# EAGLE library part 738-224 (library con-wago_738)
Serie 738, Vierstock-Klemmenleiste für Leiterplatten Lötstifte für Stockwerk 2 und 4 um das 1/2 Rastermaß versetzt / Series 738, Quadruple-deck PCB terminal strip solder pins for deck 2 and 4 staggered by half the pin spacing Polzahl / Pole No.: 24 Rastermaß / Pitch: 5 mm Bemessungsspannung / Rated Voltage: 320 V Nennstrom / Nominal Current: 18 A Leiterquerschnitt / Conductor Size: 0.08 - 2.5 mm² Anschlusstechnik / Connection Technology: CAGE CLAMP® Lötstiftlänge: / Solder Pin Length: 4 mm Leitereinführung (zur Platine) / Conductor entry angle (to PCB): 45 ° Farbe / Color: grau / gray Stand: 01.01.2012. Die jeweils aktuellen Daten zu diesem Artikel finden Sie in unserem Produktkatalog, den Sie unter www.wago.com einsehen können. As of: 01/01/2012. Please find the newest data for this article in our product catalogue, which can be viewed under www.wago.com.
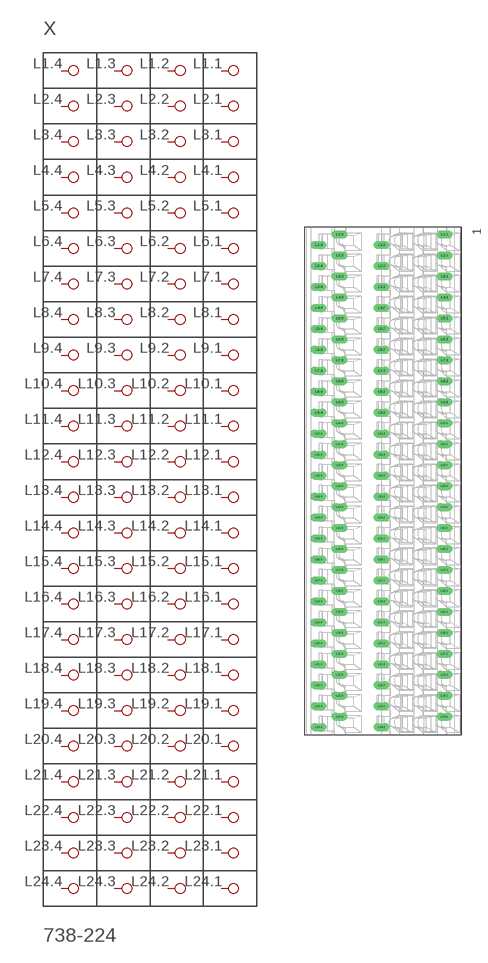
[diagram p15: symbol with the pads of P-738-224; footprint P-738-224]

Designator prefix X

## 738-224  [P-738-224]
L1.1  P1.1
L1.2  P1.2
L1.3  P1.3
L1.4  P1.4
L2.1  P2.1
L2.2  P2.2
L2.3  P2.3
L2.4  P2.4
L3.1  P3.1
L3.2  P3.2
L3.3  P3.3
L3.4  P3.4
L4.1  P4.1
L4.2  P4.2
L4.3  P4.3
L4.4  P4.4
L5.1  P5.1
L5.2  P5.2
L5.3  P5.3
L5.4  P5.4
L6.1  P6.1
L6.2  P6.2
L6.3  P6.3
L6.4  P6.4
L7.1  P7.1
L7.2  P7.2
L7.3  P7.3
L7.4  P7.4
L8.1  P8.1
L8.2  P8.2
L8.3  P8.3
L8.4  P8.4
L9.1  P9.1
L9.2  P9.2
L9.3  P9.3
L9.4  P9.4
L10.1  P10.1
L10.2  P10.2
L10.3  P10.3
L10.4  P10.4
L11.1  P11.1
L11.2  P11.2
L11.3  P11.3
L11.4  P11.4
L12.1  P12.1
L12.2  P12.2
L12.3  P12.3
L12.4  P12.4
L13.1  P13.1
L13.2  P13.2
L13.3  P13.3
L13.4  P13.4
L14.1  P14.1
L14.2  P14.2
L14.3  P14.3
L14.4  P14.4
L15.1  P15.1
L15.2  P15.2
L15.3  P15.3
L15.4  P15.4
L16.1  P16.1
L16.2  P16.2
L16.3  P16.3
L16.4  P16.4
L17.1  P17.1
L17.2  P17.2
L17.3  P17.3
L17.4  P17.4
L18.1  P18.1
L18.2  P18.2
L18.3  P18.3
L18.4  P18.4
L19.1  P19.1
L19.2  P19.2
L19.3  P19.3
L19.4  P19.4
L20.1  P20.1
L20.2  P20.2
L20.3  P20.3
L20.4  P20.4
L21.1  P21.1
L21.2  P21.2
L21.3  P21.3
L21.4  P21.4
L22.1  P22.1
L22.2  P22.2
L22.3  P22.3
L22.4  P22.4
L23.1  P23.1
L23.2  P23.2
L23.3  P23.3
L23.4  P23.4
L24.1  P24.1
L24.2  P24.2
L24.3  P24.3
L24.4  P24.4

## Footprint P-738-224 (pad centres in mm)
drill 1.3 long: L1.1 14.685,58.8; L1.2 -0.315,56.3; L1.3 -10.315,58.8; L1.4 -15.315,56.3; L2.1 14.685,53.8; L2.2 -0.315,51.3; L2.3 -10.315,53.8; L2.4 -15.315,51.3; L3.1 14.685,48.8; L3.2 -0.315,46.3; L3.3 -10.315,48.8; L3.4 -15.315,46.3; L4.1 14.685,43.8; L4.2 -0.315,41.3; L4.3 -10.315,43.8; L4.4 -15.315,41.3; L5.1 14.685,38.8; L5.2 -0.315,36.3; L5.3 -10.315,38.8; L5.4 -15.315,36.3; L6.1 14.685,33.8; L6.2 -0.315,31.3; L6.3 -10.315,33.8; L6.4 -15.315,31.3; L7.1 14.685,28.8; L7.2 -0.315,26.3; L7.3 -10.315,28.8; L7.4 -15.315,26.3; L8.1 14.685,23.8; L8.2 -0.315,21.3; L8.3 -10.315,23.8; L8.4 -15.315,21.3; L9.1 14.685,18.8; L9.2 -0.315,16.3; L9.3 -10.315,18.8; L9.4 -15.315,16.3; L10.1 14.685,13.8; L10.2 -0.315,11.3; L10.3 -10.315,13.8; L10.4 -15.315,11.3; L11.1 14.685,8.8; L11.2 -0.315,6.3; L11.3 -10.315,8.8; L11.4 -15.315,6.3; L12.1 14.685,3.8; L12.2 -0.315,1.3; L12.3 -10.315,3.8; L12.4 -15.315,1.3; L13.1 14.685,-1.2; L13.2 -0.315,-3.7; L13.3 -10.315,-1.2; L13.4 -15.315,-3.7; L14.1 14.685,-6.2; L14.2 -0.315,-8.7; L14.3 -10.315,-6.2; L14.4 -15.315,-8.7; L15.1 14.685,-11.2; L15.2 -0.315,-13.7; L15.3 -10.315,-11.2; L15.4 -15.315,-13.7; L16.1 14.685,-16.2; L16.2 -0.315,-18.7; L16.3 -10.315,-16.2; L16.4 -15.315,-18.7; L17.1 14.685,-21.2; L17.2 -0.315,-23.7; L17.3 -10.315,-21.2; L17.4 -15.315,-23.7; L18.1 14.685,-26.2; L18.2 -0.315,-28.7; L18.3 -10.315,-26.2; L18.4 -15.315,-28.7; L19.1 14.685,-31.2; L19.2 -0.315,-33.7; L19.3 -10.315,-31.2; L19.4 -15.315,-33.7; L20.1 14.685,-36.2; L20.2 -0.315,-38.7; L20.3 -10.315,-36.2; L20.4 -15.315,-38.7; L21.1 14.685,-41.2; L21.2 -0.315,-43.7; L21.3 -10.315,-41.2; L21.4 -15.315,-43.7; L22.1 14.685,-46.2; L22.2 -0.315,-48.7; L22.3 -10.315,-46.2; L22.4 -15.315,-48.7; L23.1 14.685,-51.2; L23.2 -0.315,-53.7; L23.3 -10.315,-51.2; L23.4 -15.315,-53.7; L24.1 14.685,-56.2; L24.2 -0.315,-58.7; L24.3 -10.315,-56.2; L24.4 -15.315,-58.7